# Altium schematic symbol library HM73-152R2LFTR13.SchLib: 1 symbol
Pins are listed as number, name and electrical type; pins without a type are passive.

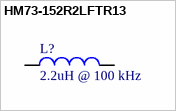
[diagram p0: symbol HM73-152R2LFTR13]

## HM73-152R2LFTR13
designator L?  Inductance: 2.2uH @ 100 kHz  (hidden comment: HM73-152R2LFTR13)
Inductor 2.2UH Low Pro Shld SMD; Manufacturer: TT BI; Current Rating: 8A; Saturation Current: 13A; Tolerance: 20%; Shielding: Shielded; DC Resistance (DCR): 4.6mR; Test Frequency: 100kHz; Supplier 1: Digi-Key; PN: HM73-152R2LFTR13; RoHS: Yes; Category: Fixed Inductors; Mount: Surface Mount; Min Operating Temperature: -40°C; Max Operating Temperature: 155°C; Package Quantity: 500; Packaging: Tape and Reel; Length: 0.285inch; Width: 0.265inch; Height: 0.216inch; ComponentLink1URL: http://www.ttelectronics.com/themes/ttelectronics/datasheets/magnetics/HM73.pdf?src-supplier=Digi-Key; ComponentLink1Description: Datasheet; Supplier Part Number 1: HM73-152R2LFTR13-ND
footprint HM73-152R2LFTR13
pins: 1, 2